# EAGLE library part POCKETBEAGLE (library Project2_Main)
PocketBeagle is an ultra-tiny-yet-complete open-source USB-key-fob computer. PocketBeagle features an incredible low cost, slick design and simple usage, making PocketBeagle the ideal development board for beginners and professionals alike.
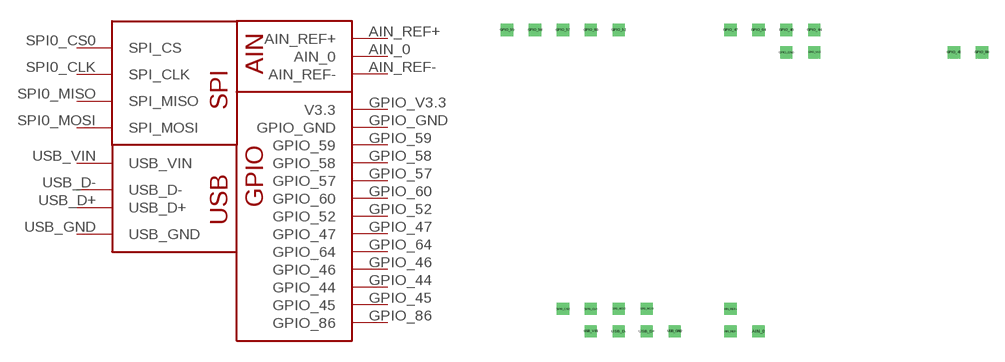
[diagram p1: symbol with the pads of POCKETBEAGLE; footprint POCKETBEAGLE]

Designator prefix PB

## POCKETBEAGLE (MF: BeagleBoard)  [POCKETBEAGLE]
AIN_0  AIN_0
AIN_REF+  AIN_REF+
AIN_REF-  AIN_REF-
GPIO_44  GPIO_44
GPIO_45  GPIO_45
GPIO_46  GPIO_46
GPIO_47  GPIO_47
GPIO_52  GPIO_52
GPIO_57  GPIO_57
GPIO_58  GPIO_58
GPIO_59  GPIO_59
GPIO_60  GPIO_60
GPIO_64  GPIO_64
GPIO_86  GPIO_86
GPIO_GND  GPIO_GND
GPIO_V3.3  V3.3
SPI0_CLK  SPI_CLK
SPI0_CS0  SPI_CS
SPI0_MISO  SPI_MISO
SPI0_MOSI  SPI_MOSI
USB_D+  USB_D+
USB_D-  USB_D-
USB_GND  USB_GND
USB_VIN  USB_VIN

## Footprint POCKETBEAGLE (pad centres in mm)
drill 0.6 square: AIN_0 28.194,4.064; AIN_REF+ 25.654,6.096; AIN_REF- 25.654,4.064; GPIO_44 33.274,31.496; GPIO_45 45.974,29.464; GPIO_46 30.734,31.496; GPIO_47 25.654,31.496; GPIO_52 15.494,31.496; GPIO_57 10.414,31.496; GPIO_58 7.874,31.496; GPIO_59 5.334,31.496; GPIO_60 12.954,31.496; GPIO_64 28.194,31.496; GPIO_86 48.514,29.464; GPIO_GND 30.734,29.464; GPIO_V3.3 33.274,29.464; SPI0_CLK 12.954,6.096; SPI0_CS0 10.414,6.096; SPI0_MISO 15.494,6.096; SPI0_MOSI 18.034,6.096; USB_D+ 18.034,4.064; USB_D- 15.494,4.064; USB_GND 20.574,4.064; USB_VIN 12.954,4.064